# Altium schematic symbol library TLP290_SE_T.SchLib: 1 symbol
Pins are listed as number, name and electrical type; pins without a type are passive.

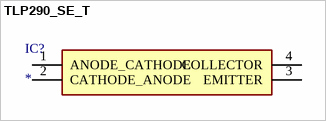
[diagram p0: symbol TLP290_SE_T]

## TLP290_SE_T
designator IC?
Integrated Circuit; Manufacturer_Name: Toshiba; Manufacturer_Part_Number: TLP290(SE(T; Description: Photocoupler; Datasheet Link: http://uk.rs-online.com/web/p/products/8851086; Height: 2.2mm; Arrow Part Number: TLP290(SE(T; Arrow Price/Stock: https://www.arrow.com/en/products/tlp290-se-t/toshiba; Mouser Part Number: N/A; Mouser Price/Stock: https://www.mouser.com/Search/Refine.aspx?Keyword=N%2FA
footprint SOIC127P700X220-4N
pins: 1 ANODE_CATHODE, 2 CATHODE_ANODE, 3 EMITTER, 4 COLLECTOR